# Altium schematic symbol library LS044Q7DH01.Schlib: 1 symbol
Pins are listed as number, name and electrical type; pins without a type are passive.

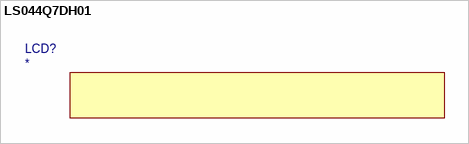
[diagram p0: symbol LS044Q7DH01]

## LS044Q7DH01
designator LCD?  (mechanical)